# Altium footprint library SON_65P_N.PcbLib: 1 footprints
Each footprint in its own frame and in the unit in brackets; x right, y up, seen from the top. Pads: shape width x height; smd on the part's side, far side on the other; paste and mask are expansions set on the pad; w line width, h text height; cw(c..) or ccw(c..) is an arc to the next point about the centre after c.
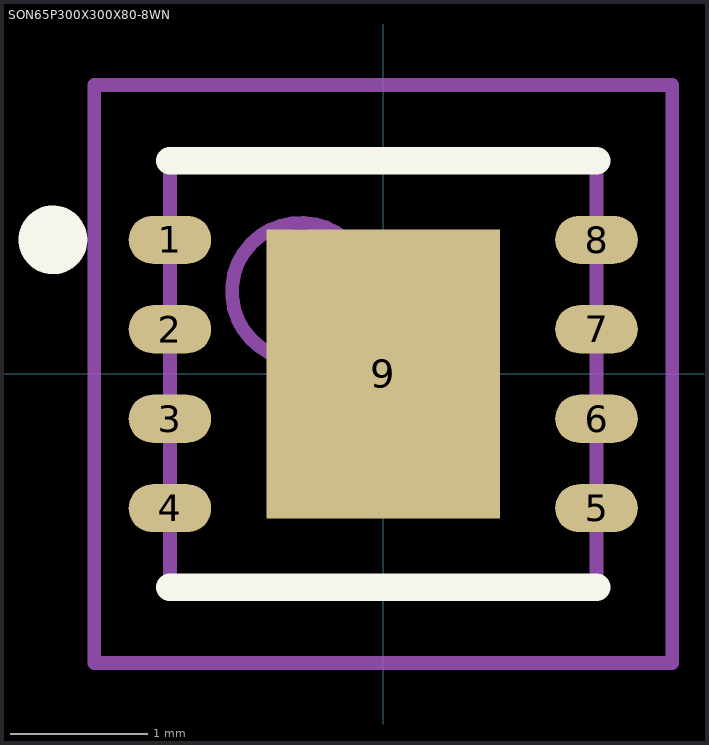
[diagram p0: the footprint, top view; thin cyan lines are the x and y axes]

## SON65P300X300X80-8WN [mm] "SON, 8-Leads, Body 3x3 mm, Pitch 0.65mm, IPC Medium Density"
height 0.8
pads (9):
  oval 0.6x0.35 smd: 1(-1.55,0.975) 2(-1.55,0.325) 3(-1.55,-0.325) 4(-1.55,-0.975) 5(1.55,-0.975) 6(1.55,-0.325) 7(1.55,0.325) 8(1.55,0.975)
  rect 1.7x2.1 smd: 9(0,0)
Top Overlay:
  circle w0.25: c-2.4,0.975 r0.125
  lines w0.2: -1.55,-1.55 1.55,-1.55 ; -1.55,1.55 1.55,1.55
Mechanical 13:
  circle w0.1: c-0.6,0.6 r0.5
  lines w0.1: -1.55,-1.55 1.55,-1.55 1.55,1.55 -1.55,1.55 -1.55,-1.55
Mechanical 15:
  lines w0.1: -0.5,0 0.5,0 ; 0,-0.5 0,0.5 ; -2.1,-2.1 2.1,-2.1 2.1,2.1 -2.1,2.1 -2.1,-2.1
3D body: height 0.8, standoff 0, extent -1.55,-1.55 1.55,1.55